# Altium integrated library Microchip Mixed Signal.IntLib: 1399 symbols (part 7 of 39)
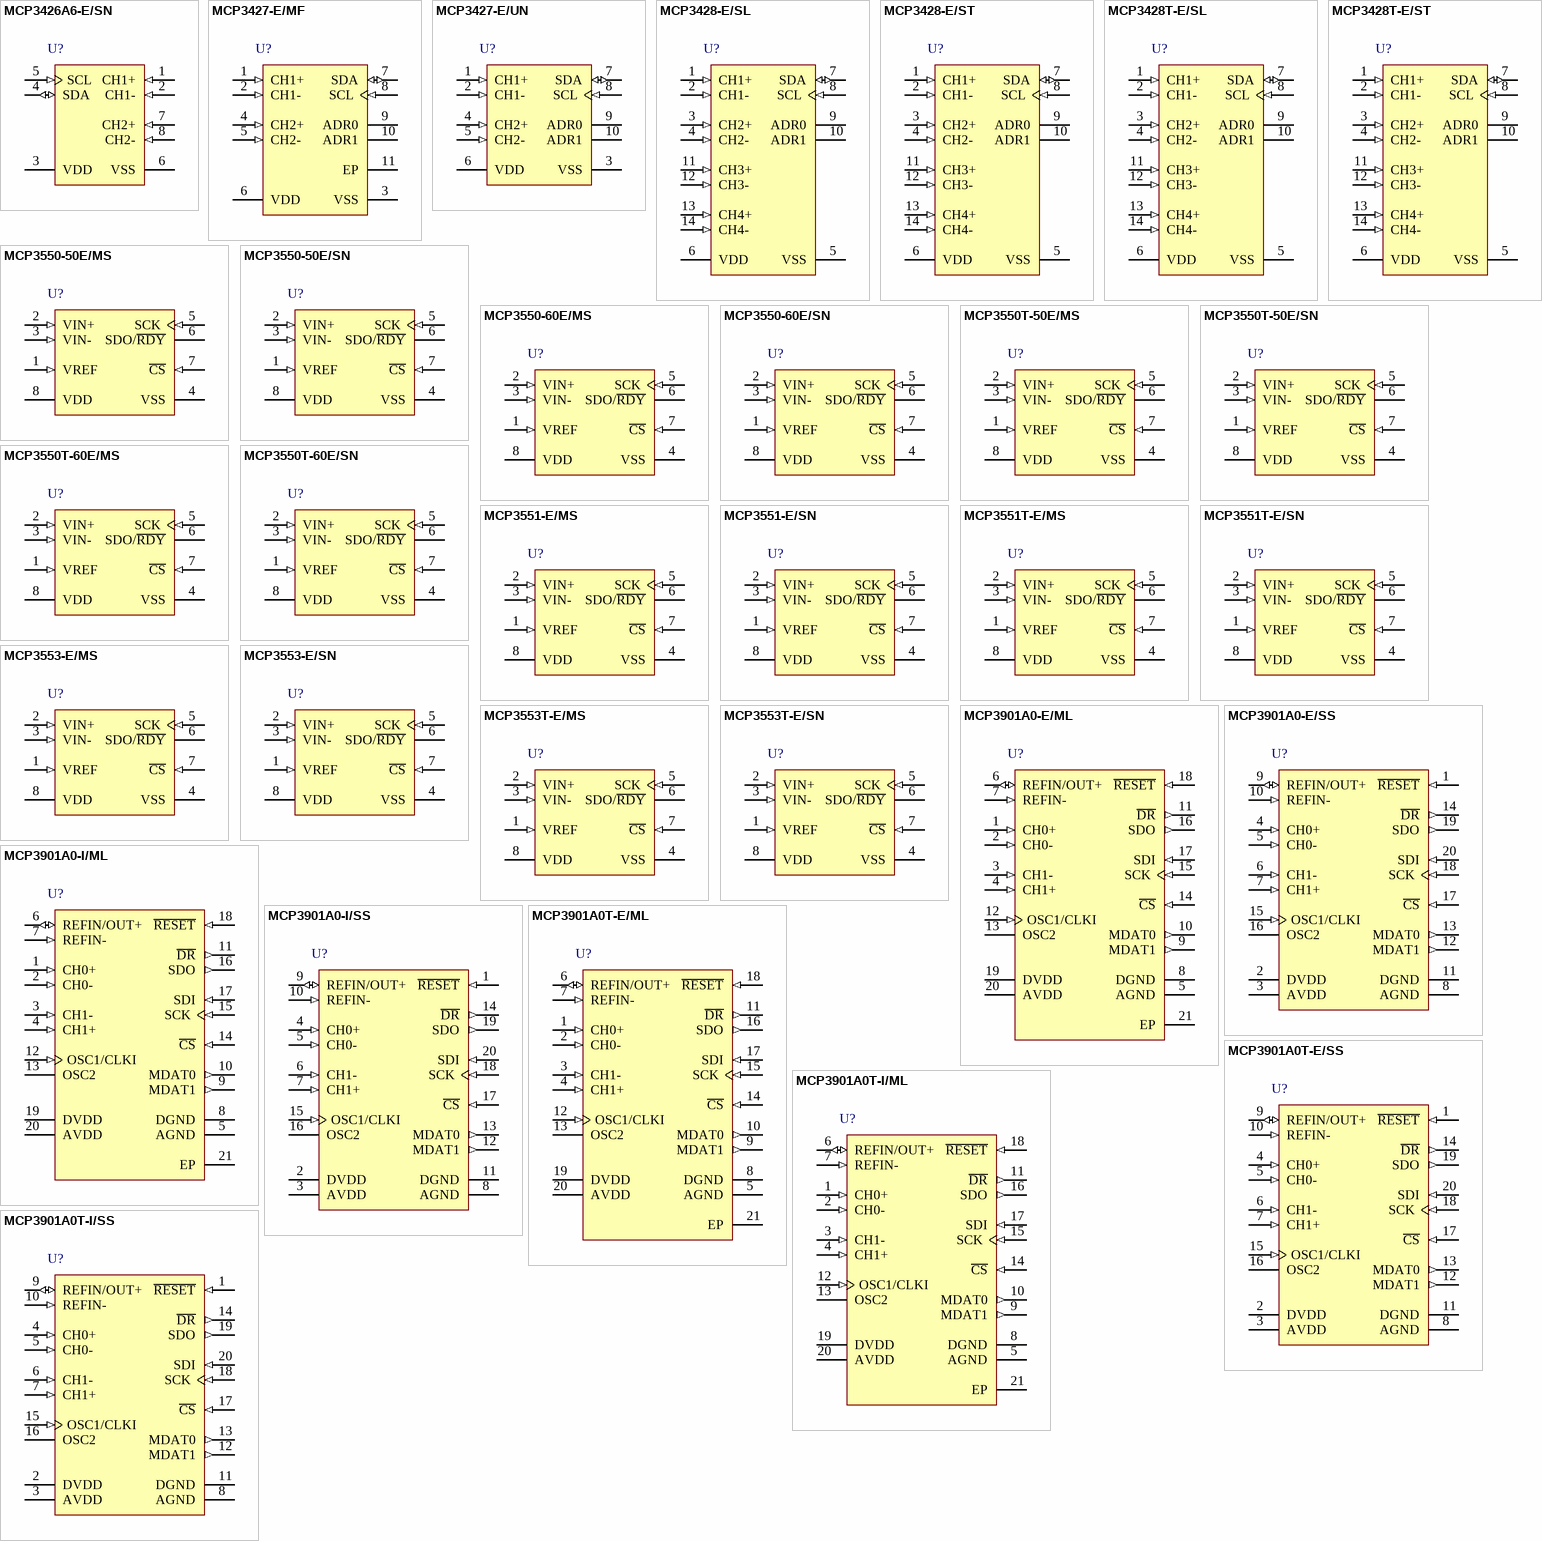
[diagram p50: symbols MCP3426A6-E/SN to MCP3901A0T-I/SS]

## MCP3901A0-I/ML
designator U?
Two Channel Analog Front End, 20-Pin QFN, Industrial Temperature; Manufacturer: Microchip; PartNumber: MCP3901A0-I/ML; DatasheetVersion: revD, Apr-2011; PackageVersion: revBB, Aug-2009; PackageReference: QFN-ML20; PackageDescription: 20-Lead Plastic Quad Flat, No Lead Package (ML) - 4x4x0.9 mm Body [QFN]; Supplier 1: Digi-Key; Supplier Part Number 1: MCP3901A0-I/ML-ND; Supplier 2: Mouser; Supplier Part Number 2: 579-MCP3901A0-I/ML; Mounting Technology: Surface Mount; ComponentLink1Description: Manufacturer URL; ComponentLink1URL: http://www.microchip.com/; ComponentLink2Description: Datasheet; ComponentLink2URL: http://ww1.microchip.com/downloads/en/DeviceDoc/22192d.pdf; ComponentLink3Description: Package Specification; ComponentLink3URL: http://www.microchip.com/stellent/groups/techpub_sg/documents/packagingspec/en012702.pdf
footprint QFN-ML20_N (QFN, 20-Leads, Body 4x4mm, Pitch 0.5mm, Thermal Pad 2.8x2.8mm, IPC Medium Density)
footprint QFN-ML20_L (QFN, 20-Leads, Body 4x4mm, Pitch 0.5mm, Thermal Pad 2.8x2.8mm, IPC High Density)
footprint QFN-ML20_M (QFN, 20-Leads, Body 4x4mm, Pitch 0.5mm, Thermal Pad 2.8x2.8mm, IPC Low Density)
pins: 1 CH0+ (in), 2 CH0- (in), 3 CH1- (in), 4 CH1+ (in), 5 AGND (power), 6 REFIN/OUT+ (io), 7 REFIN- (in), 8 DGND (power), 9 MDAT1 (out), 10 MDAT0 (out), 11 ~{DR} (out), 12 OSC1/CLKI (in), 13 OSC2, 14 ~{CS} (in), 15 SCK (in), 16 SDO (out), 17 SDI (in), 18 ~{RESET} (in), 19 DVDD (power), 20 AVDD (power), 21 EP

## MCP3901A0-I/SS
designator U?
Two Channel Analog Front End, 20-pin SSOP, Industrial Temperature; Manufacturer: Microchip; PartNumber: MCP3901A0-I/SS; DatasheetVersion: revD, Apr-2011; PackageVersion: revBB, Aug-2009; PackageReference: SSOP-SS20; PackageDescription: 20-Lead Plastic Shrink Small Outline (SS) - 5.3mm Body [SSOP]; Supplier 1: Digi-Key; Supplier Part Number 1: MCP3901A0-I/SS-ND; Supplier 2: Farnell; Supplier Part Number 2: 1825015; Supplier 3: Newark; Supplier Part Number 3: 14R8868; Supplier 4: Mouser; Supplier Part Number 4: 579-MCP3901A0-I/SS; Mounting Technology: Surface Mount; Code_JEDEC: MO-150; ComponentLink1Description: Manufacturer URL; ComponentLink1URL: http://www.microchip.com/; ComponentLink2Description: Datasheet; ComponentLink2URL: http://ww1.microchip.com/downloads/en/DeviceDoc/22192d.pdf; ComponentLink3Description: Package Specification; ComponentLink3URL: http://www.microchip.com/stellent/groups/techpub_sg/documents/packagingspec/en012702.pdf
footprint SSOP-SS20_N (SOP, 20-Leads, Body 7.2x5.2mm, Pitch 0.65mm, IPC Medium Density)
footprint SSOP-SS20_L (SOP, 20-Leads, Body 7.2x5.2mm, Pitch 0.65mm, IPC High Density)
footprint SSOP-SS20_M (SOP, 20-Leads, Body 7.2x5.2mm, Pitch 0.65mm, IPC Low Density)
pins: 1 ~{RESET} (in), 2 DVDD (power), 3 AVDD (power), 4 CH0+ (in), 5 CH0- (in), 6 CH1- (in), 7 CH1+ (in), 8 AGND (power), 9 REFIN/OUT+ (io), 10 REFIN- (in), 11 DGND (power), 12 MDAT1 (out), 13 MDAT0 (out), 14 ~{DR} (out), 15 OSC1/CLKI (in), 16 OSC2, 17 ~{CS} (in), 18 SCK (in), 19 SDO (out), 20 SDI (in)

## MCP3901A0T-E/ML
designator U?
Two Channel Analog Front End, 20-Pin QFN, Extended Temperature, Tape and Reel; Manufacturer: Microchip; PartNumber: MCP3901A0T-E/ML; DatasheetVersion: revD, Apr-2011; PackageVersion: revBB, Aug-2009; PackageReference: QFN-ML20; PackageDescription: 20-Lead Plastic Quad Flat, No Lead Package (ML) - 4x4x0.9 mm Body [QFN]; Supplier 1: Digi-Key; Supplier Part Number 1: MCP3901A0T-E/ML-ND; Supplier 2: Mouser; Supplier Part Number 2: 579-MCP3901A0T-E/ML; Mounting Technology: Surface Mount; ComponentLink1Description: Manufacturer URL; ComponentLink1URL: http://www.microchip.com/; ComponentLink2Description: Datasheet; ComponentLink2URL: http://ww1.microchip.com/downloads/en/DeviceDoc/22192d.pdf; ComponentLink3Description: Package Specification; ComponentLink3URL: http://www.microchip.com/stellent/groups/techpub_sg/documents/packagingspec/en012702.pdf
footprint QFN-ML20_N (QFN, 20-Leads, Body 4x4mm, Pitch 0.5mm, Thermal Pad 2.8x2.8mm, IPC Medium Density)
footprint QFN-ML20_L (QFN, 20-Leads, Body 4x4mm, Pitch 0.5mm, Thermal Pad 2.8x2.8mm, IPC High Density)
footprint QFN-ML20_M (QFN, 20-Leads, Body 4x4mm, Pitch 0.5mm, Thermal Pad 2.8x2.8mm, IPC Low Density)
pins: 1 CH0+ (in), 2 CH0- (in), 3 CH1- (in), 4 CH1+ (in), 5 AGND (power), 6 REFIN/OUT+ (io), 7 REFIN- (in), 8 DGND (power), 9 MDAT1 (out), 10 MDAT0 (out), 11 ~{DR} (out), 12 OSC1/CLKI (in), 13 OSC2, 14 ~{CS} (in), 15 SCK (in), 16 SDO (out), 17 SDI (in), 18 ~{RESET} (in), 19 DVDD (power), 20 AVDD (power), 21 EP

## MCP3901A0T-E/SS
designator U?
Two Channel Analog Front End, 20-Pin SSOP 208mil, Extended Temperature, Tape and Reel; Manufacturer: Microchip; PartNumber: MCP3901A0T-E/SS; DatasheetVersion: revD, Apr-2011; PackageVersion: revBB, Aug-2009; PackageReference: SSOP-SS20; PackageDescription: 20-Lead Plastic Shrink Small Outline (SS) - 5.3mm Body [SSOP]; Supplier 1: Digi-Key; Supplier Part Number 1: MCP3901A0T-E/SS-ND; Supplier 2: Mouser; Supplier Part Number 2: 579-MCP3901A0TESS; Mounting Technology: Surface Mount; Code_JEDEC: MO-150; ComponentLink1Description: Manufacturer URL; ComponentLink1URL: http://www.microchip.com/; ComponentLink2Description: Datasheet; ComponentLink2URL: http://ww1.microchip.com/downloads/en/DeviceDoc/22192d.pdf; ComponentLink3Description: Package Specification; ComponentLink3URL: http://www.microchip.com/stellent/groups/techpub_sg/documents/packagingspec/en012702.pdf
footprint SSOP-SS20_N (SOP, 20-Leads, Body 7.2x5.2mm, Pitch 0.65mm, IPC Medium Density)
footprint SSOP-SS20_L (SOP, 20-Leads, Body 7.2x5.2mm, Pitch 0.65mm, IPC High Density)
footprint SSOP-SS20_M (SOP, 20-Leads, Body 7.2x5.2mm, Pitch 0.65mm, IPC Low Density)
pins: 1 ~{RESET} (in), 2 DVDD (power), 3 AVDD (power), 4 CH0+ (in), 5 CH0- (in), 6 CH1- (in), 7 CH1+ (in), 8 AGND (power), 9 REFIN/OUT+ (io), 10 REFIN- (in), 11 DGND (power), 12 MDAT1 (out), 13 MDAT0 (out), 14 ~{DR} (out), 15 OSC1/CLKI (in), 16 OSC2, 17 ~{CS} (in), 18 SCK (in), 19 SDO (out), 20 SDI (in)

## MCP3901A0T-I/ML
designator U?
Two Channel Analog Front End, 20-Pin QFN, Industrial Temperature, Tape and Reel; Manufacturer: Microchip; PartNumber: MCP3901A0T-I/ML; DatasheetVersion: revD, Apr-2011; PackageVersion: revBB, Aug-2009; PackageReference: QFN-ML20; PackageDescription: 20-Lead Plastic Quad Flat, No Lead Package (ML) - 4x4x0.9 mm Body [QFN]; Supplier 1: Digi-Key; Supplier Part Number 1: MCP3901A0T-I/ML-ND; Supplier 2: Mouser; Supplier Part Number 2: 579-MCP3901A0T-I/ML; Mounting Technology: Surface Mount; ComponentLink1Description: Manufacturer URL; ComponentLink1URL: http://www.microchip.com/; ComponentLink2Description: Datasheet; ComponentLink2URL: http://ww1.microchip.com/downloads/en/DeviceDoc/22192d.pdf; ComponentLink3Description: Package Specification; ComponentLink3URL: http://www.microchip.com/stellent/groups/techpub_sg/documents/packagingspec/en012702.pdf
footprint QFN-ML20_N (QFN, 20-Leads, Body 4x4mm, Pitch 0.5mm, Thermal Pad 2.8x2.8mm, IPC Medium Density)
footprint QFN-ML20_L (QFN, 20-Leads, Body 4x4mm, Pitch 0.5mm, Thermal Pad 2.8x2.8mm, IPC High Density)
footprint QFN-ML20_M (QFN, 20-Leads, Body 4x4mm, Pitch 0.5mm, Thermal Pad 2.8x2.8mm, IPC Low Density)
pins: 1 CH0+ (in), 2 CH0- (in), 3 CH1- (in), 4 CH1+ (in), 5 AGND (power), 6 REFIN/OUT+ (io), 7 REFIN- (in), 8 DGND (power), 9 MDAT1 (out), 10 MDAT0 (out), 11 ~{DR} (out), 12 OSC1/CLKI (in), 13 OSC2, 14 ~{CS} (in), 15 SCK (in), 16 SDO (out), 17 SDI (in), 18 ~{RESET} (in), 19 DVDD (power), 20 AVDD (power), 21 EP

## MCP3901A0T-I/SS
designator U?
Two Channel Analog Front End, 20-pin SSOP, Industrial Temperature, Tape and Reel; Manufacturer: Microchip; PartNumber: MCP3901A0T-I/SS; DatasheetVersion: revD, Apr-2011; PackageVersion: revBB, Aug-2009; PackageReference: SSOP-SS20; PackageDescription: 20-Lead Plastic Shrink Small Outline (SS) - 5.3mm Body [SSOP]; Supplier 1: Digi-Key; Supplier Part Number 1: MCP3901A0T-I/SS-ND; Supplier 2: Newark; Supplier Part Number 2: 14R8870; Supplier 3: Mouser; Supplier Part Number 3: 579-MCP3901A0T-I/SS; Mounting Technology: Surface Mount; Code_JEDEC: MO-150; ComponentLink1Description: Manufacturer URL; ComponentLink1URL: http://www.microchip.com/; ComponentLink2Description: Datasheet; ComponentLink2URL: http://ww1.microchip.com/downloads/en/DeviceDoc/22192d.pdf; ComponentLink3Description: Package Specification; ComponentLink3URL: http://www.microchip.com/stellent/groups/techpub_sg/documents/packagingspec/en012702.pdf
footprint SSOP-SS20_N (SOP, 20-Leads, Body 7.2x5.2mm, Pitch 0.65mm, IPC Medium Density)
footprint SSOP-SS20_L (SOP, 20-Leads, Body 7.2x5.2mm, Pitch 0.65mm, IPC High Density)
footprint SSOP-SS20_M (SOP, 20-Leads, Body 7.2x5.2mm, Pitch 0.65mm, IPC Low Density)
pins: 1 ~{RESET} (in), 2 DVDD (power), 3 AVDD (power), 4 CH0+ (in), 5 CH0- (in), 6 CH1- (in), 7 CH1+ (in), 8 AGND (power), 9 REFIN/OUT+ (io), 10 REFIN- (in), 11 DGND (power), 12 MDAT1 (out), 13 MDAT0 (out), 14 ~{DR} (out), 15 OSC1/CLKI (in), 16 OSC2, 17 ~{CS} (in), 18 SCK (in), 19 SDO (out), 20 SDI (in)

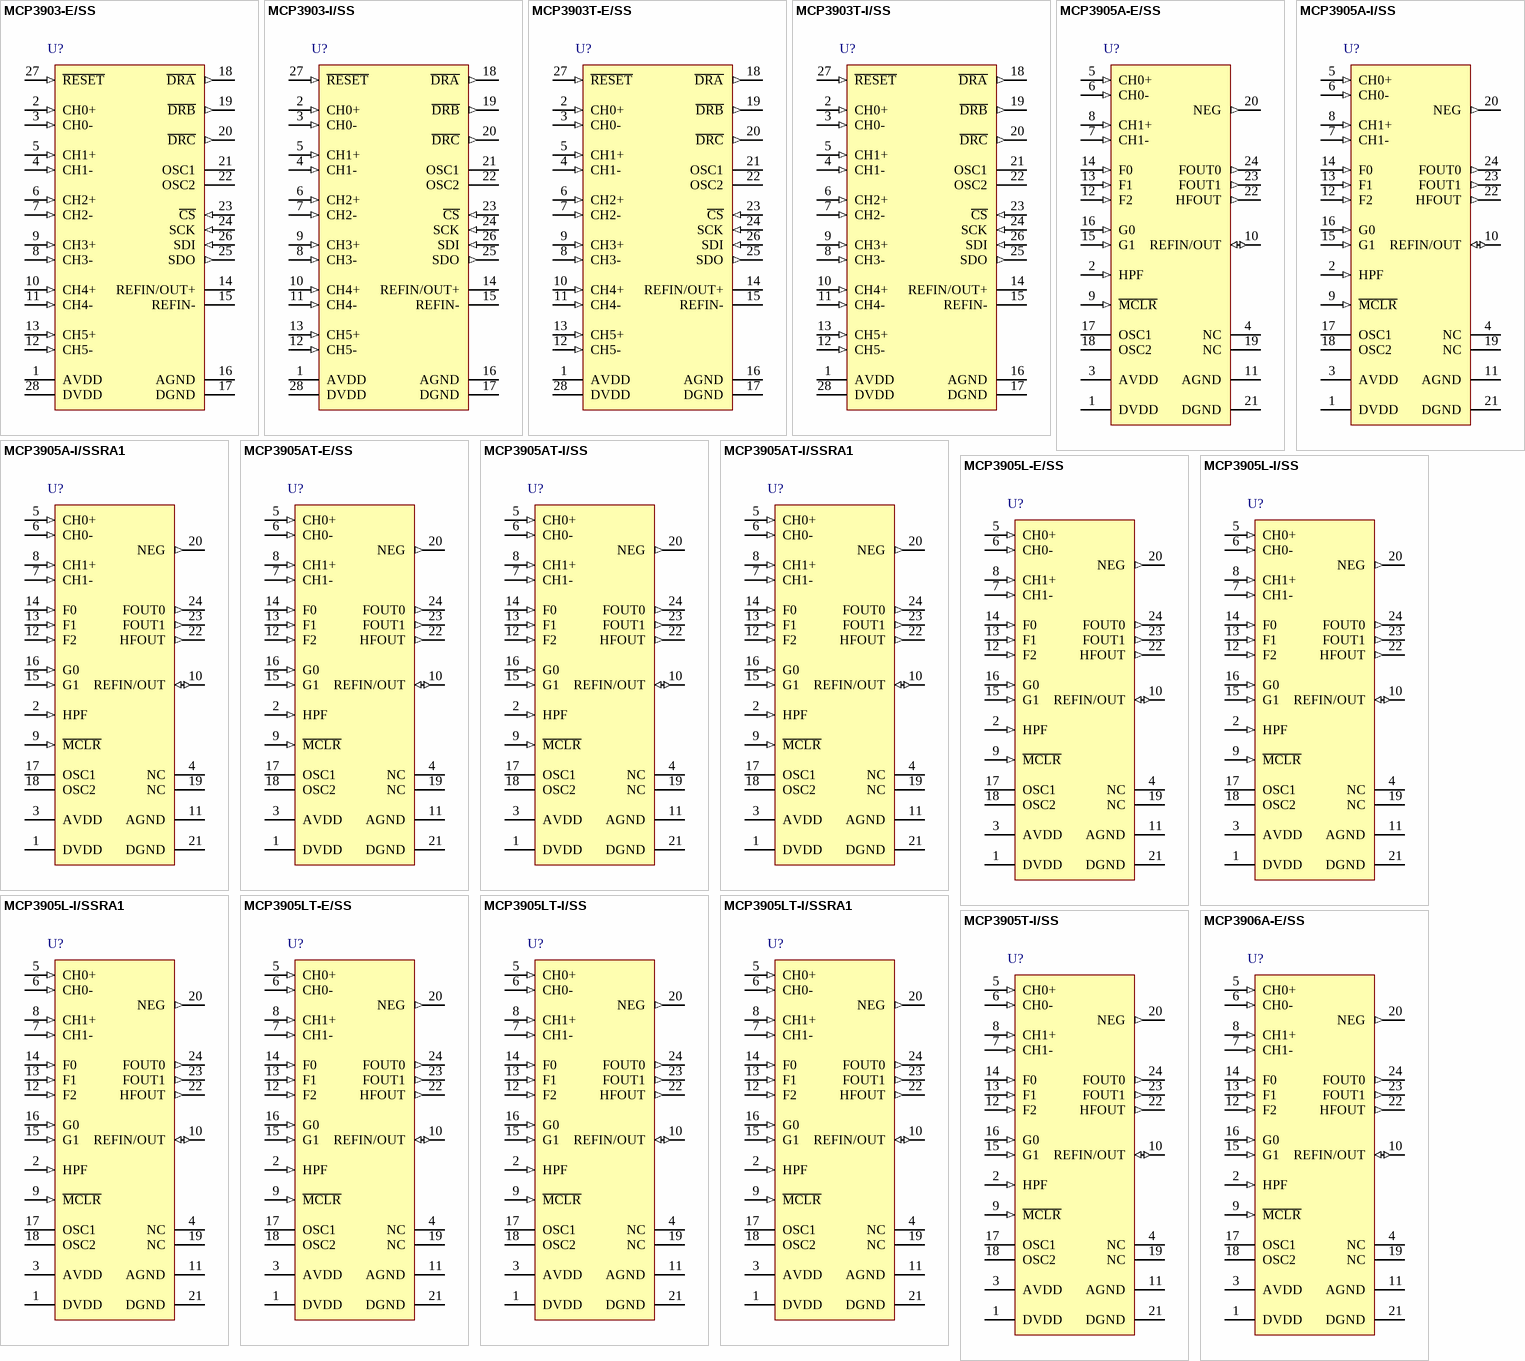
[diagram p6: symbols MCP3903-E/SS to MCP3906A-E/SS]

## MCP3903-E/SS
designator U?
Six Channel Delta Sigma A/D Converter, 28-Pin SSOP 208mil, Extended Temperature; Manufacturer: Microchip; PartNumber: MCP3903-E/SS; DatasheetVersion: revB, Jul-2011; PackageVersion: revBB, Aug-2009; PackageReference: SSOP-SS28; PackageDescription: 28-Lead Plastic Shrink Small Outline (SS) - 5.3mm Body [SSOP]; Supplier 1: Digi-Key; Supplier Part Number 1: MCP3903-E/SS-ND; Supplier 2: Farnell; Supplier Part Number 2: 2016052; Supplier 3: Newark; Supplier Part Number 3: 79R3452; Supplier 4: Mouser; Supplier Part Number 4: 579-MCP3903-E/SS; Mounting Technology: Surface Mount; Code_JEDEC: MS-150; ComponentLink1Description: Manufacturer URL; ComponentLink1URL: http://www.microchip.com/; ComponentLink2Description: Datasheet; ComponentLink2URL: http://ww1.microchip.com/downloads/en/DeviceDoc/25048B.pdf; ComponentLink3Description: Package Specification; ComponentLink3URL: http://www.microchip.com/stellent/groups/techpub_sg/documents/packagingspec/en012702.pdf
footprint SSOP-SS28_N (SOP, 28-Leads, Body 10.2x5.2mm, Pitch 0.65mm, IPC Medium Density)
footprint SSOP-SS28_L (SOP, 28-Leads, Body 10.2x5.2mm, Pitch 0.65mm, IPC High Density)
footprint SSOP-SS28_M (SOP, 28-Leads, Body 10.2x5.2mm, Pitch 0.65mm, IPC Low Density)
pins: 1 AVDD (power), 2 CH0+ (in), 3 CH0- (in), 4 CH1- (in), 5 CH1+ (in), 6 CH2+ (in), 7 CH2- (in), 8 CH3- (in), 9 CH3+ (in), 10 CH4+ (in), 11 CH4- (in), 12 CH5- (in), 13 CH5+ (in), 14 REFIN/OUT+ (power), 15 REFIN- (power), 16 AGND (power), 17 DGND (power), 18 ~{DRA} (out), 19 ~{DRB} (out), 20 ~{DRC} (out), 21 OSC1, 22 OSC2, 23 ~{CS} (in), 24 SCK (in), 25 SDO (out), 26 SDI (in), 27 ~{RESET} (in), 28 DVDD (power)

## MCP3903-I/SS
designator U?
Six Channel Delta Sigma A/D Converter, 28-Pin SSOP 208mil, Industrial Temperature; Manufacturer: Microchip; PartNumber: MCP3903-I/SS; DatasheetVersion: revB, Jul-2011; PackageVersion: revBB, Aug-2009; PackageReference: SSOP-SS28; PackageDescription: 28-Lead Plastic Shrink Small Outline (SS) - 5.3mm Body [SSOP]; Supplier 1: Digi-Key; Supplier Part Number 1: MCP3903-I/SS-ND; Supplier 2: Newark; Supplier Part Number 2: 55T3275; Supplier 3: Mouser; Supplier Part Number 3: 579-MCP3903-I/SS; Mounting Technology: Surface Mount; Code_JEDEC: MS-150; ComponentLink1Description: Manufacturer URL; ComponentLink1URL: http://www.microchip.com/; ComponentLink2Description: Datasheet; ComponentLink2URL: http://ww1.microchip.com/downloads/en/DeviceDoc/25048B.pdf; ComponentLink3Description: Package Specification; ComponentLink3URL: http://www.microchip.com/stellent/groups/techpub_sg/documents/packagingspec/en012702.pdf
footprint SSOP-SS28_N (SOP, 28-Leads, Body 10.2x5.2mm, Pitch 0.65mm, IPC Medium Density)
footprint SSOP-SS28_L (SOP, 28-Leads, Body 10.2x5.2mm, Pitch 0.65mm, IPC High Density)
footprint SSOP-SS28_M (SOP, 28-Leads, Body 10.2x5.2mm, Pitch 0.65mm, IPC Low Density)
pins: 1 AVDD (power), 2 CH0+ (in), 3 CH0- (in), 4 CH1- (in), 5 CH1+ (in), 6 CH2+ (in), 7 CH2- (in), 8 CH3- (in), 9 CH3+ (in), 10 CH4+ (in), 11 CH4- (in), 12 CH5- (in), 13 CH5+ (in), 14 REFIN/OUT+ (power), 15 REFIN- (power), 16 AGND (power), 17 DGND (power), 18 ~{DRA} (out), 19 ~{DRB} (out), 20 ~{DRC} (out), 21 OSC1, 22 OSC2, 23 ~{CS} (in), 24 SCK (in), 25 SDO (out), 26 SDI (in), 27 ~{RESET} (in), 28 DVDD (power)

## MCP3903T-E/SS
designator U?
Six Channel Delta Sigma A/D Converter, 28-Pin SSOP 208mil, Extended Temperature, Tape and Reel; Manufacturer: Microchip; PartNumber: MCP3903T-E/SS; DatasheetVersion: revB, Jul-2011; PackageVersion: revBB, Aug-2009; PackageReference: SSOP-SS28; PackageDescription: 28-Lead Plastic Shrink Small Outline (SS) - 5.3mm Body [SSOP]; Supplier 1: Digi-Key; Supplier Part Number 1: MCP3903T-E/SS-ND; Supplier 2: Mouser; Supplier Part Number 2: 579-MCP3903T-E/SS; Mounting Technology: Surface Mount; Code_JEDEC: MS-150; ComponentLink1Description: Manufacturer URL; ComponentLink1URL: http://www.microchip.com/; ComponentLink2Description: Datasheet; ComponentLink2URL: http://ww1.microchip.com/downloads/en/DeviceDoc/25048B.pdf; ComponentLink3Description: Package Specification; ComponentLink3URL: http://www.microchip.com/stellent/groups/techpub_sg/documents/packagingspec/en012702.pdf
footprint SSOP-SS28_N (SOP, 28-Leads, Body 10.2x5.2mm, Pitch 0.65mm, IPC Medium Density)
footprint SSOP-SS28_L (SOP, 28-Leads, Body 10.2x5.2mm, Pitch 0.65mm, IPC High Density)
footprint SSOP-SS28_M (SOP, 28-Leads, Body 10.2x5.2mm, Pitch 0.65mm, IPC Low Density)
pins: 1 AVDD (power), 2 CH0+ (in), 3 CH0- (in), 4 CH1- (in), 5 CH1+ (in), 6 CH2+ (in), 7 CH2- (in), 8 CH3- (in), 9 CH3+ (in), 10 CH4+ (in), 11 CH4- (in), 12 CH5- (in), 13 CH5+ (in), 14 REFIN/OUT+ (power), 15 REFIN- (power), 16 AGND (power), 17 DGND (power), 18 ~{DRA} (out), 19 ~{DRB} (out), 20 ~{DRC} (out), 21 OSC1, 22 OSC2, 23 ~{CS} (in), 24 SCK (in), 25 SDO (out), 26 SDI (in), 27 ~{RESET} (in), 28 DVDD (power)

## MCP3903T-I/SS
designator U?
Six Channel Delta Sigma A/D Converter, 28-Pin SSOP 208mil, Industrial Temperature, Tape and Reel; Manufacturer: Microchip; PartNumber: MCP3903T-I/SS; DatasheetVersion: revB, Jul-2011; PackageVersion: revBB, Aug-2009; PackageReference: SSOP-SS28; PackageDescription: 28-Lead Plastic Shrink Small Outline (SS) - 5.3mm Body [SSOP]; Supplier 1: Digi-Key; Supplier Part Number 1: MCP3903T-I/SS-ND; Supplier 2: Mouser; Supplier Part Number 2: 579-MCP3903T-I/SS; Mounting Technology: Surface Mount; Code_JEDEC: MS-150; ComponentLink1Description: Manufacturer URL; ComponentLink1URL: http://www.microchip.com/; ComponentLink2Description: Datasheet; ComponentLink2URL: http://ww1.microchip.com/downloads/en/DeviceDoc/25048B.pdf; ComponentLink3Description: Package Specification; ComponentLink3URL: http://www.microchip.com/stellent/groups/techpub_sg/documents/packagingspec/en012702.pdf
footprint SSOP-SS28_N (SOP, 28-Leads, Body 10.2x5.2mm, Pitch 0.65mm, IPC Medium Density)
footprint SSOP-SS28_L (SOP, 28-Leads, Body 10.2x5.2mm, Pitch 0.65mm, IPC High Density)
footprint SSOP-SS28_M (SOP, 28-Leads, Body 10.2x5.2mm, Pitch 0.65mm, IPC Low Density)
pins: 1 AVDD (power), 2 CH0+ (in), 3 CH0- (in), 4 CH1- (in), 5 CH1+ (in), 6 CH2+ (in), 7 CH2- (in), 8 CH3- (in), 9 CH3+ (in), 10 CH4+ (in), 11 CH4- (in), 12 CH5- (in), 13 CH5+ (in), 14 REFIN/OUT+ (power), 15 REFIN- (power), 16 AGND (power), 17 DGND (power), 18 ~{DRA} (out), 19 ~{DRB} (out), 20 ~{DRC} (out), 21 OSC1, 22 OSC2, 23 ~{CS} (in), 24 SCK (in), 25 SDO (out), 26 SDI (in), 27 ~{RESET} (in), 28 DVDD (power)

## MCP3905A-E/SS
designator U?
Energy Metering ICs with Active Real Power Pulse Output, 24-Pin SSOP 208mil, Extended Temperature; Manufacturer: Microchip; PartNumber: MCP3905A-E/SS; DatasheetVersion: revB, Jul-2011; PackageVersion: revBB, Aug-2009; PackageReference: SSOP-SS24; PackageDescription: 24-Lead Plastic Shrink Small Outline (SS) - 5.3mm Body [SSOP]; Supplier 1: Digi-Key; Supplier Part Number 1: MCP3905A-E/SS-ND; Supplier 2: Newark; Supplier Part Number 2: 41T4140; Supplier 3: Mouser; Supplier Part Number 3: 579-MCP3905A-E/SS; Mounting Technology: Surface Mount; Code_JEDEC: MO-150-AG; ComponentLink1Description: Manufacturer URL; ComponentLink1URL: http://www.microchip.com/; ComponentLink2Description: Datasheet; ComponentLink2URL: http://ww1.microchip.com/downloads/en/DeviceDoc/22011B.pdf; ComponentLink3Description: Package Specification; ComponentLink3URL: http://www.microchip.com/stellent/groups/techpub_sg/documents/packagingspec/en012702.pdf
footprint SSOP-SS24_N (SOP, 24-Leads, Body 8.2x5.3mm, Pitch 0.65mm, IPC Medium Density)
footprint SSOP-SS24_L (SOP, 24-Leads, Body 8.2x5.3mm, Pitch 0.65mm, IPC High Density)
footprint SSOP-SS24_M (SOP, 24-Leads, Body 8.2x5.3mm, Pitch 0.65mm, IPC Low Density)
pins: 1 DVDD (power), 2 HPF (in), 3 AVDD (power), 4 NC, 5 CH0+ (in), 6 CH0- (in), 7 CH1- (in), 8 CH1+ (in), 9 ~{MCLR} (in), 10 REFIN/OUT (io), 11 AGND (power), 12 F2 (in), 13 F1 (in), 14 F0 (in), 15 G1 (in), 16 G0 (in), 17 OSC1, 18 OSC2, 19 NC, 20 NEG (out), 21 DGND (power), 22 HFOUT (out), 23 FOUT1 (out), 24 FOUT0 (out)

## MCP3905A-I/SS
designator U?
Energy Metering ICs with Active Real Power Pulse Output, 24-Pin SSOP 208mil, Industrial Temperature; Manufacturer: Microchip; PartNumber: MCP3905A-I/SS; DatasheetVersion: revB, Jul-2011; PackageVersion: revBB, Aug-2009; PackageReference: SSOP-SS24; PackageDescription: 24-Lead Plastic Shrink Small Outline (SS) - 5.3mm Body [SSOP]; Supplier 1: Digi-Key; Supplier Part Number 1: MCP3905A-I/SS-ND; Supplier 2: Farnell; Supplier Part Number 2: 1439398; Supplier 3: Newark; Supplier Part Number 3: 58M8906; Supplier 4: Newark; Supplier Part Number 4: 17M0635; Supplier 5: Mouser; Supplier Part Number 5: 579-MCP3905A-I/SS; Mounting Technology: Surface Mount; Code_JEDEC: MO-150-AG; ComponentLink1Description: Manufacturer URL; ComponentLink1URL: http://www.microchip.com/; ComponentLink2Description: Datasheet; ComponentLink2URL: http://ww1.microchip.com/downloads/en/DeviceDoc/22011B.pdf; ComponentLink3Description: Package Specification; ComponentLink3URL: http://www.microchip.com/stellent/groups/techpub_sg/documents/packagingspec/en012702.pdf
footprint SSOP-SS24_N (SOP, 24-Leads, Body 8.2x5.3mm, Pitch 0.65mm, IPC Medium Density)
footprint SSOP-SS24_L (SOP, 24-Leads, Body 8.2x5.3mm, Pitch 0.65mm, IPC High Density)
footprint SSOP-SS24_M (SOP, 24-Leads, Body 8.2x5.3mm, Pitch 0.65mm, IPC Low Density)
pins: 1 DVDD (power), 2 HPF (in), 3 AVDD (power), 4 NC, 5 CH0+ (in), 6 CH0- (in), 7 CH1- (in), 8 CH1+ (in), 9 ~{MCLR} (in), 10 REFIN/OUT (io), 11 AGND (power), 12 F2 (in), 13 F1 (in), 14 F0 (in), 15 G1 (in), 16 G0 (in), 17 OSC1, 18 OSC2, 19 NC, 20 NEG (out), 21 DGND (power), 22 HFOUT (out), 23 FOUT1 (out), 24 FOUT0 (out)

## MCP3905A-I/SSRA1
designator U?
Energy Metering ICs with Active Real Power Pulse Output, 24-Pin SSOP 208mil, Industrial Temperature; Manufacturer: Microchip; PartNumber: MCP3905A-I/SSRA1; DatasheetVersion: revB, Jul-2011; PackageVersion: revBB, Aug-2009; PackageReference: SSOP-SS24; PackageDescription: 24-Lead Plastic Shrink Small Outline (SS) - 5.3mm Body [SSOP]; Mounting Technology: Surface Mount; Code_JEDEC: MO-150-AG; ComponentLink1Description: Manufacturer URL; ComponentLink1URL: http://www.microchip.com/; ComponentLink2Description: Datasheet; ComponentLink2URL: http://ww1.microchip.com/downloads/en/DeviceDoc/22011B.pdf; ComponentLink3Description: Package Specification; ComponentLink3URL: http://www.microchip.com/stellent/groups/techpub_sg/documents/packagingspec/en012702.pdf
footprint SSOP-SS24_N (SOP, 24-Leads, Body 8.2x5.3mm, Pitch 0.65mm, IPC Medium Density)
footprint SSOP-SS24_L (SOP, 24-Leads, Body 8.2x5.3mm, Pitch 0.65mm, IPC High Density)
footprint SSOP-SS24_M (SOP, 24-Leads, Body 8.2x5.3mm, Pitch 0.65mm, IPC Low Density)
pins: 1 DVDD (power), 2 HPF (in), 3 AVDD (power), 4 NC, 5 CH0+ (in), 6 CH0- (in), 7 CH1- (in), 8 CH1+ (in), 9 ~{MCLR} (in), 10 REFIN/OUT (io), 11 AGND (power), 12 F2 (in), 13 F1 (in), 14 F0 (in), 15 G1 (in), 16 G0 (in), 17 OSC1, 18 OSC2, 19 NC, 20 NEG (out), 21 DGND (power), 22 HFOUT (out), 23 FOUT1 (out), 24 FOUT0 (out)

## MCP3905AT-E/SS
designator U?
Energy Metering ICs with Active Real Power Pulse Output, 24-Pin SSOP 208mil, Extended Temperature, Tape and Reel; Manufacturer: Microchip; PartNumber: MCP3905AT-E/SS; DatasheetVersion: revB, Jul-2011; PackageVersion: revBB, Aug-2009; PackageReference: SSOP-SS24; PackageDescription: 24-Lead Plastic Shrink Small Outline (SS) - 5.3mm Body [SSOP]; Supplier 1: Digi-Key; Supplier Part Number 1: MCP3905AT-E/SS-ND; Supplier 2: Mouser; Supplier Part Number 2: 579-MCP3905AT-E/SS; Mounting Technology: Surface Mount; Code_JEDEC: MO-150-AG; ComponentLink1Description: Manufacturer URL; ComponentLink1URL: http://www.microchip.com/; ComponentLink2Description: Datasheet; ComponentLink2URL: http://ww1.microchip.com/downloads/en/DeviceDoc/22011B.pdf; ComponentLink3Description: Package Specification; ComponentLink3URL: http://www.microchip.com/stellent/groups/techpub_sg/documents/packagingspec/en012702.pdf
footprint SSOP-SS24_N (SOP, 24-Leads, Body 8.2x5.3mm, Pitch 0.65mm, IPC Medium Density)
footprint SSOP-SS24_L (SOP, 24-Leads, Body 8.2x5.3mm, Pitch 0.65mm, IPC High Density)
footprint SSOP-SS24_M (SOP, 24-Leads, Body 8.2x5.3mm, Pitch 0.65mm, IPC Low Density)
pins: 1 DVDD (power), 2 HPF (in), 3 AVDD (power), 4 NC, 5 CH0+ (in), 6 CH0- (in), 7 CH1- (in), 8 CH1+ (in), 9 ~{MCLR} (in), 10 REFIN/OUT (io), 11 AGND (power), 12 F2 (in), 13 F1 (in), 14 F0 (in), 15 G1 (in), 16 G0 (in), 17 OSC1, 18 OSC2, 19 NC, 20 NEG (out), 21 DGND (power), 22 HFOUT (out), 23 FOUT1 (out), 24 FOUT0 (out)

## MCP3905AT-I/SS
designator U?
Energy Metering ICs with Active Real Power Pulse Output, 24-Pin SSOP 208mil, Industrial Temperature, Tape and Reel; Manufacturer: Microchip; PartNumber: MCP3905AT-I/SS; DatasheetVersion: revB, Jul-2011; PackageVersion: revBB, Aug-2009; PackageReference: SSOP-SS24; PackageDescription: 24-Lead Plastic Shrink Small Outline (SS) - 5.3mm Body [SSOP]; Supplier 1: Digi-Key; Supplier Part Number 1: MCP3905AT-I/SS-ND; Supplier 2: Newark; Supplier Part Number 2: 17M0636; Supplier 3: Mouser; Supplier Part Number 3: 579-MCP3905AT-I/SS; Mounting Technology: Surface Mount; Code_JEDEC: MO-150-AG; ComponentLink1Description: Manufacturer URL; ComponentLink1URL: http://www.microchip.com/; ComponentLink2Description: Datasheet; ComponentLink2URL: http://ww1.microchip.com/downloads/en/DeviceDoc/22011B.pdf; ComponentLink3Description: Package Specification; ComponentLink3URL: http://www.microchip.com/stellent/groups/techpub_sg/documents/packagingspec/en012702.pdf
footprint SSOP-SS24_N (SOP, 24-Leads, Body 8.2x5.3mm, Pitch 0.65mm, IPC Medium Density)
footprint SSOP-SS24_L (SOP, 24-Leads, Body 8.2x5.3mm, Pitch 0.65mm, IPC High Density)
footprint SSOP-SS24_M (SOP, 24-Leads, Body 8.2x5.3mm, Pitch 0.65mm, IPC Low Density)
pins: 1 DVDD (power), 2 HPF (in), 3 AVDD (power), 4 NC, 5 CH0+ (in), 6 CH0- (in), 7 CH1- (in), 8 CH1+ (in), 9 ~{MCLR} (in), 10 REFIN/OUT (io), 11 AGND (power), 12 F2 (in), 13 F1 (in), 14 F0 (in), 15 G1 (in), 16 G0 (in), 17 OSC1, 18 OSC2, 19 NC, 20 NEG (out), 21 DGND (power), 22 HFOUT (out), 23 FOUT1 (out), 24 FOUT0 (out)

## MCP3905AT-I/SSRA1
designator U?
Energy Metering ICs with Active Real Power Pulse Output, 24-Pin SSOP 208mil, Industrial Temperature, Tape and Reel; Manufacturer: Microchip; PartNumber: MCP3905AT-I/SSRA1; DatasheetVersion: revA, Sep-2006; PackageVersion: revBB, Aug-2009; PackageReference: SSOP-SS24; PackageDescription: 24-Lead Plastic Shrink Small Outline (SS) - 5.3mm Body [SSOP]; Mounting Technology: Surface Mount; Code_JEDEC: MO-150-AG; ComponentLink1Description: Manufacturer URL; ComponentLink1URL: http://www.microchip.com/; ComponentLink2Description: Datasheet; ComponentLink2URL: http://ww1.microchip.com/downloads/en/DeviceDoc/22011A.pdf; ComponentLink3Description: Package Specification; ComponentLink3URL: http://www.microchip.com/stellent/groups/techpub_sg/documents/packagingspec/en012702.pdf
footprint SSOP-SS24_N (SOP, 24-Leads, Body 8.2x5.3mm, Pitch 0.65mm, IPC Medium Density)
footprint SSOP-SS24_L (SOP, 24-Leads, Body 8.2x5.3mm, Pitch 0.65mm, IPC High Density)
footprint SSOP-SS24_M (SOP, 24-Leads, Body 8.2x5.3mm, Pitch 0.65mm, IPC Low Density)
pins: 1 DVDD (power), 2 HPF (in), 3 AVDD (power), 4 NC, 5 CH0+ (in), 6 CH0- (in), 7 CH1- (in), 8 CH1+ (in), 9 ~{MCLR} (in), 10 REFIN/OUT (io), 11 AGND (power), 12 F2 (in), 13 F1 (in), 14 F0 (in), 15 G1 (in), 16 G0 (in), 17 OSC1, 18 OSC2, 19 NC, 20 NEG (out), 21 DGND (power), 22 HFOUT (out), 23 FOUT1 (out), 24 FOUT0 (out)

## MCP3905L-E/SS
designator U?
Energy Metering ICs with Active Real Power Pulse Output, 24-Pin SSOP 208mil, Extended Temperature; Manufacturer: Microchip; PartNumber: MCP3905L-E/SS; DatasheetVersion: revB, Jul-2011; PackageVersion: revBB, Aug-2009; PackageReference: SSOP-SS24; PackageDescription: 24-Lead Plastic Shrink Small Outline (SS) - 5.3mm Body [SSOP]; Supplier 1: Digi-Key; Supplier Part Number 1: MCP3905L-E/SS-ND; Supplier 2: Mouser; Supplier Part Number 2: 579-MCP3905L-E/SS; Mounting Technology: Surface Mount; Code_JEDEC: MO-150-AG; ComponentLink1Description: Manufacturer URL; ComponentLink1URL: http://www.microchip.com/; ComponentLink2Description: Datasheet; ComponentLink2URL: http://ww1.microchip.com/downloads/en/DeviceDoc/22011B.pdf; ComponentLink3Description: Package Specification; ComponentLink3URL: http://www.microchip.com/stellent/groups/techpub_sg/documents/packagingspec/en012702.pdf
footprint SSOP-SS24_N (SOP, 24-Leads, Body 8.2x5.3mm, Pitch 0.65mm, IPC Medium Density)
footprint SSOP-SS24_L (SOP, 24-Leads, Body 8.2x5.3mm, Pitch 0.65mm, IPC High Density)
footprint SSOP-SS24_M (SOP, 24-Leads, Body 8.2x5.3mm, Pitch 0.65mm, IPC Low Density)
pins: 1 DVDD (power), 2 HPF (in), 3 AVDD (power), 4 NC, 5 CH0+ (in), 6 CH0- (in), 7 CH1- (in), 8 CH1+ (in), 9 ~{MCLR} (in), 10 REFIN/OUT (io), 11 AGND (power), 12 F2 (in), 13 F1 (in), 14 F0 (in), 15 G1 (in), 16 G0 (in), 17 OSC1, 18 OSC2, 19 NC, 20 NEG (out), 21 DGND (power), 22 HFOUT (out), 23 FOUT1 (out), 24 FOUT0 (out)

## MCP3905L-I/SS
designator U?
Energy Metering ICs with Active Real Power Pulse Output, 24-Pin SSOP 208mil, Industrial Temperature; Manufacturer: Microchip; PartNumber: MCP3905L-I/SS; DatasheetVersion: revB, Jul-2011; PackageVersion: revBB, Aug-2009; PackageReference: SSOP-SS24; PackageDescription: 24-Lead Plastic Shrink Small Outline (SS) - 5.3mm Body [SSOP]; Supplier 1: Digi-Key; Supplier Part Number 1: MCP3905L-I/SS-ND; Supplier 2: Farnell; Supplier Part Number 2: 1852027; Supplier 3: Newark; Supplier Part Number 3: 17M0637; Supplier 4: Mouser; Supplier Part Number 4: 579-MCP3905L-I/SS; Mounting Technology: Surface Mount; Code_JEDEC: MO-150-AG; ComponentLink1Description: Manufacturer URL; ComponentLink1URL: http://www.microchip.com/; ComponentLink2Description: Datasheet; ComponentLink2URL: http://ww1.microchip.com/downloads/en/DeviceDoc/22011B.pdf; ComponentLink3Description: Package Specification; ComponentLink3URL: http://www.microchip.com/stellent/groups/techpub_sg/documents/packagingspec/en012702.pdf
footprint SSOP-SS24_N (SOP, 24-Leads, Body 8.2x5.3mm, Pitch 0.65mm, IPC Medium Density)
footprint SSOP-SS24_L (SOP, 24-Leads, Body 8.2x5.3mm, Pitch 0.65mm, IPC High Density)
footprint SSOP-SS24_M (SOP, 24-Leads, Body 8.2x5.3mm, Pitch 0.65mm, IPC Low Density)
pins: 1 DVDD (power), 2 HPF (in), 3 AVDD (power), 4 NC, 5 CH0+ (in), 6 CH0- (in), 7 CH1- (in), 8 CH1+ (in), 9 ~{MCLR} (in), 10 REFIN/OUT (io), 11 AGND (power), 12 F2 (in), 13 F1 (in), 14 F0 (in), 15 G1 (in), 16 G0 (in), 17 OSC1, 18 OSC2, 19 NC, 20 NEG (out), 21 DGND (power), 22 HFOUT (out), 23 FOUT1 (out), 24 FOUT0 (out)

## MCP3905L-I/SSRA1
designator U?
Energy Metering ICs with Active Real Power Pulse Output, 24-Pin SSOP 208mil, Industrial Temperature; Manufacturer: Microchip; PartNumber: MCP3905L-I/SSRA1; DatasheetVersion: revA, Sep-2006; PackageVersion: revBB, Aug-2009; PackageReference: SSOP-SS24; PackageDescription: 24-Lead Plastic Shrink Small Outline (SS) - 5.3mm Body [SSOP]; Mounting Technology: Surface Mount; Code_JEDEC: MO-150-AG; ComponentLink1Description: Manufacturer URL; ComponentLink1URL: http://www.microchip.com/; ComponentLink2Description: Datasheet; ComponentLink2URL: http://ww1.microchip.com/downloads/en/DeviceDoc/22011A.pdf; ComponentLink3Description: Package Specification; ComponentLink3URL: http://www.microchip.com/stellent/groups/techpub_sg/documents/packagingspec/en012702.pdf
footprint SSOP-SS24_N (SOP, 24-Leads, Body 8.2x5.3mm, Pitch 0.65mm, IPC Medium Density)
footprint SSOP-SS24_L (SOP, 24-Leads, Body 8.2x5.3mm, Pitch 0.65mm, IPC High Density)
footprint SSOP-SS24_M (SOP, 24-Leads, Body 8.2x5.3mm, Pitch 0.65mm, IPC Low Density)
pins: 1 DVDD (power), 2 HPF (in), 3 AVDD (power), 4 NC, 5 CH0+ (in), 6 CH0- (in), 7 CH1- (in), 8 CH1+ (in), 9 ~{MCLR} (in), 10 REFIN/OUT (io), 11 AGND (power), 12 F2 (in), 13 F1 (in), 14 F0 (in), 15 G1 (in), 16 G0 (in), 17 OSC1, 18 OSC2, 19 NC, 20 NEG (out), 21 DGND (power), 22 HFOUT (out), 23 FOUT1 (out), 24 FOUT0 (out)

## MCP3905LT-E/SS
designator U?
Energy Metering ICs with Active Real Power Pulse Output, 24-Pin SSOP 208mil, Extended Temperature, Tape and Reel; Manufacturer: Microchip; PartNumber: MCP3905LT-E/SS; DatasheetVersion: revB, Jul-2011; PackageVersion: revBB, Aug-2009; PackageReference: SSOP-SS24; PackageDescription: 24-Lead Plastic Shrink Small Outline (SS) - 5.3mm Body [SSOP]; Supplier 1: Digi-Key; Supplier Part Number 1: MCP3905LT-E/SS-ND; Supplier 2: Mouser; Supplier Part Number 2: 579-MCP3905LT-E/SS; Mounting Technology: Surface Mount; Code_JEDEC: MO-150-AG; ComponentLink1Description: Manufacturer URL; ComponentLink1URL: http://www.microchip.com/; ComponentLink2Description: Datasheet; ComponentLink2URL: http://ww1.microchip.com/downloads/en/DeviceDoc/22011B.pdf; ComponentLink3Description: Package Specification; ComponentLink3URL: http://www.microchip.com/stellent/groups/techpub_sg/documents/packagingspec/en012702.pdf
footprint SSOP-SS24_N (SOP, 24-Leads, Body 8.2x5.3mm, Pitch 0.65mm, IPC Medium Density)
footprint SSOP-SS24_L (SOP, 24-Leads, Body 8.2x5.3mm, Pitch 0.65mm, IPC High Density)
footprint SSOP-SS24_M (SOP, 24-Leads, Body 8.2x5.3mm, Pitch 0.65mm, IPC Low Density)
pins: 1 DVDD (power), 2 HPF (in), 3 AVDD (power), 4 NC, 5 CH0+ (in), 6 CH0- (in), 7 CH1- (in), 8 CH1+ (in), 9 ~{MCLR} (in), 10 REFIN/OUT (io), 11 AGND (power), 12 F2 (in), 13 F1 (in), 14 F0 (in), 15 G1 (in), 16 G0 (in), 17 OSC1, 18 OSC2, 19 NC, 20 NEG (out), 21 DGND (power), 22 HFOUT (out), 23 FOUT1 (out), 24 FOUT0 (out)

## MCP3905LT-I/SS
designator U?
Energy-Metering ICs with Active (Real) Power Pulse Output, 24-Pin SSOP 208mil, Industrial Temperature, Tape and Reel; Manufacturer: Microchip; PartNumber: MCP3905LT-I/SS; DatasheetVersion: revA, Sep-2006; PackageVersion: revBB, Aug-2009; PackageReference: SSOP-SS24; PackageDescription: 24-Lead Plastic Shrink Small Outline (SS) - 5.3mm Body [SSOP]; Supplier 1: Digi-Key; Supplier Part Number 1: MCP3905LT-I/SSTR-ND; Supplier 2: Mouser; Supplier Part Number 2: 579-MCP3905LT-I/SS; Mounting Technology: Surface Mount; Code_JEDEC: MO-150-AG; ComponentLink1Description: Manufacturer URL; ComponentLink1URL: http://www.microchip.com/; ComponentLink2Description: Datasheet; ComponentLink2URL: http://ww1.microchip.com/downloads/en/DeviceDoc/22011A.pdf; ComponentLink3Description: Package Specification; ComponentLink3URL: http://www.microchip.com/stellent/groups/techpub_sg/documents/packagingspec/en012702.pdf
footprint SSOP-SS24_N (SOP, 24-Leads, Body 8.2x5.3mm, Pitch 0.65mm, IPC Medium Density)
footprint SSOP-SS24_L (SOP, 24-Leads, Body 8.2x5.3mm, Pitch 0.65mm, IPC High Density)
footprint SSOP-SS24_M (SOP, 24-Leads, Body 8.2x5.3mm, Pitch 0.65mm, IPC Low Density)
pins: 1 DVDD (power), 2 HPF (in), 3 AVDD (power), 4 NC, 5 CH0+ (in), 6 CH0- (in), 7 CH1- (in), 8 CH1+ (in), 9 ~{MCLR} (in), 10 REFIN/OUT (io), 11 AGND (power), 12 F2 (in), 13 F1 (in), 14 F0 (in), 15 G1 (in), 16 G0 (in), 17 OSC1, 18 OSC2, 19 NC, 20 NEG (out), 21 DGND (power), 22 HFOUT (out), 23 FOUT1 (out), 24 FOUT0 (out)

## MCP3905LT-I/SSRA1
designator U?
Energy Metering ICs with Active Real Power Pulse Output, 24-Pin SSOP 208mil, Industrial Temperature, Tape and Reel; Manufacturer: Microchip; PartNumber: MCP3905LT-I/SSRA1; DatasheetVersion: revA, Sep-2006; PackageVersion: revBB, Aug-2009; PackageReference: SSOP-SS24; PackageDescription: 24-Lead Plastic Shrink Small Outline (SS) - 5.3mm Body [SSOP]; Mounting Technology: Surface Mount; Code_JEDEC: MO-150-AG; ComponentLink1Description: Manufacturer URL; ComponentLink1URL: http://www.microchip.com/; ComponentLink2Description: Datasheet; ComponentLink2URL: http://ww1.microchip.com/downloads/en/DeviceDoc/22011A.pdf; ComponentLink3Description: Package Specification; ComponentLink3URL: http://www.microchip.com/stellent/groups/techpub_sg/documents/packagingspec/en012702.pdf
footprint SSOP-SS24_N (SOP, 24-Leads, Body 8.2x5.3mm, Pitch 0.65mm, IPC Medium Density)
footprint SSOP-SS24_L (SOP, 24-Leads, Body 8.2x5.3mm, Pitch 0.65mm, IPC High Density)
footprint SSOP-SS24_M (SOP, 24-Leads, Body 8.2x5.3mm, Pitch 0.65mm, IPC Low Density)
pins: 1 DVDD (power), 2 HPF (in), 3 AVDD (power), 4 NC, 5 CH0+ (in), 6 CH0- (in), 7 CH1- (in), 8 CH1+ (in), 9 ~{MCLR} (in), 10 REFIN/OUT (io), 11 AGND (power), 12 F2 (in), 13 F1 (in), 14 F0 (in), 15 G1 (in), 16 G0 (in), 17 OSC1, 18 OSC2, 19 NC, 20 NEG (out), 21 DGND (power), 22 HFOUT (out), 23 FOUT1 (out), 24 FOUT0 (out)

## MCP3905T-I/SS
designator U?
Energy-Metering ICs with Active (Real) Power Pulse Output, 24-Pin SSOP 208mil, Industrial Temperature, Tape and Reel; Manufacturer: Microchip; PartNumber: MCP3905T-I/SS; DatasheetVersion: revA, Sep-2006; PackageVersion: revBB, Aug-2009; PackageReference: SSOP-SS24; PackageDescription: 24-Lead Plastic Shrink Small Outline (SS) - 5.3mm Body [SSOP]; Supplier 1: Digi-Key; Supplier Part Number 1: MCP3905T-I/SS-ND; Supplier 2: Mouser; Supplier Part Number 2: N/A; Mounting Technology: Surface Mount; Code_JEDEC: MO-150-AG; ComponentLink1Description: Manufacturer URL; ComponentLink1URL: http://www.microchip.com/; ComponentLink2Description: Datasheet; ComponentLink2URL: http://ww1.microchip.com/downloads/en/DeviceDoc/22011A.pdf; ComponentLink3Description: Package Specification; ComponentLink3URL: http://www.microchip.com/stellent/groups/techpub_sg/documents/packagingspec/en012702.pdf
footprint SSOP-SS24_N (SOP, 24-Leads, Body 8.2x5.3mm, Pitch 0.65mm, IPC Medium Density)
footprint SSOP-SS24_L (SOP, 24-Leads, Body 8.2x5.3mm, Pitch 0.65mm, IPC High Density)
footprint SSOP-SS24_M (SOP, 24-Leads, Body 8.2x5.3mm, Pitch 0.65mm, IPC Low Density)
pins: 1 DVDD (power), 2 HPF (in), 3 AVDD (power), 4 NC, 5 CH0+ (in), 6 CH0- (in), 7 CH1- (in), 8 CH1+ (in), 9 ~{MCLR} (in), 10 REFIN/OUT (io), 11 AGND (power), 12 F2 (in), 13 F1 (in), 14 F0 (in), 15 G1 (in), 16 G0 (in), 17 OSC1, 18 OSC2, 19 NC, 20 NEG (out), 21 DGND (power), 22 HFOUT (out), 23 FOUT1 (out), 24 FOUT0 (out)

## MCP3906A-E/SS
designator U?
Energy Metering ICs with Active Real Power Pulse Output, 24-Pin SSOP 208mil, Extended Temperature; Manufacturer: Microchip; PartNumber: MCP3906A-E/SS; DatasheetVersion: revB, Jul-2011; PackageVersion: revBB, Aug-2009; PackageReference: SSOP-SS24; PackageDescription: 24-Lead Plastic Shrink Small Outline (SS) - 5.3mm Body [SSOP]; Supplier 1: Digi-Key; Supplier Part Number 1: MCP3906A-E/SS-ND; Supplier 2: Newark; Supplier Part Number 2: 51T0380; Supplier 3: Mouser; Supplier Part Number 3: 579-MCP3906A-E/SS; Mounting Technology: Surface Mount; Code_JEDEC: MO-150-AG; ComponentLink1Description: Manufacturer URL; ComponentLink1URL: http://www.microchip.com/; ComponentLink2Description: Datasheet; ComponentLink2URL: http://ww1.microchip.com/downloads/en/DeviceDoc/22011B.pdf; ComponentLink3Description: Package Specification; ComponentLink3URL: http://www.microchip.com/stellent/groups/techpub_sg/documents/packagingspec/en012702.pdf
footprint SSOP-SS24_N (SOP, 24-Leads, Body 8.2x5.3mm, Pitch 0.65mm, IPC Medium Density)
footprint SSOP-SS24_L (SOP, 24-Leads, Body 8.2x5.3mm, Pitch 0.65mm, IPC High Density)
footprint SSOP-SS24_M (SOP, 24-Leads, Body 8.2x5.3mm, Pitch 0.65mm, IPC Low Density)
pins: 1 DVDD (power), 2 HPF (in), 3 AVDD (power), 4 NC, 5 CH0+ (in), 6 CH0- (in), 7 CH1- (in), 8 CH1+ (in), 9 ~{MCLR} (in), 10 REFIN/OUT (io), 11 AGND (power), 12 F2 (in), 13 F1 (in), 14 F0 (in), 15 G1 (in), 16 G0 (in), 17 OSC1, 18 OSC2, 19 NC, 20 NEG (out), 21 DGND (power), 22 HFOUT (out), 23 FOUT1 (out), 24 FOUT0 (out)

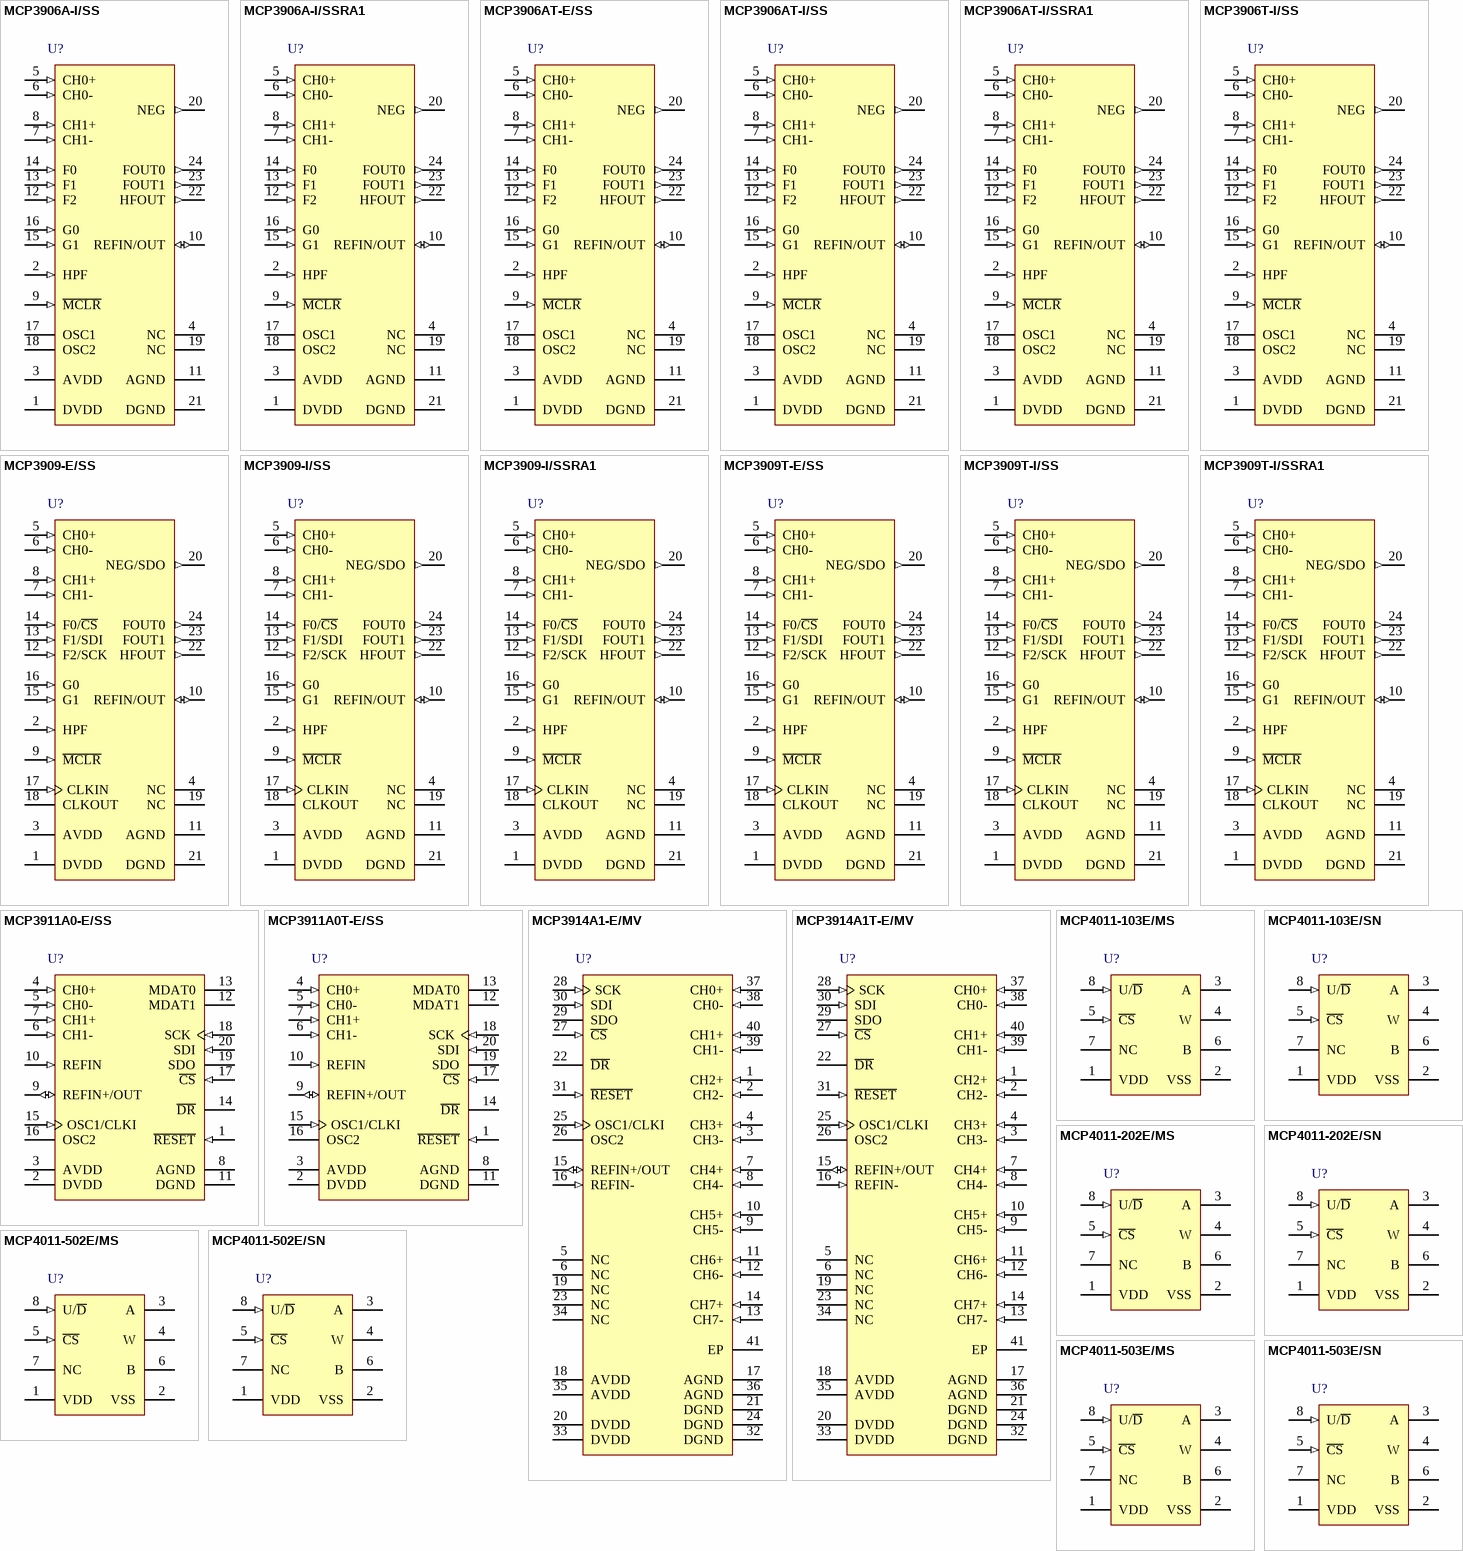
[diagram p7: symbols MCP3906A-I/SS to MCP4011-503E/SN]

## MCP3906A-I/SS
designator U?
Energy Metering ICs with Active Real Power Pulse Output, 24-Pin SSOP 208mil, Industrial Temperature; Manufacturer: Microchip; PartNumber: MCP3906A-I/SS; DatasheetVersion: revB, Jul-2011; PackageVersion: revBB, Aug-2009; PackageReference: SSOP-SS24; PackageDescription: 24-Lead Plastic Shrink Small Outline (SS) - 5.3mm Body [SSOP]; Supplier 1: Digi-Key; Supplier Part Number 1: MCP3906A-I/SS-ND; Supplier 2: Farnell; Supplier Part Number 2: 1439399; Supplier 3: Newark; Supplier Part Number 3: 58M8907; Supplier 4: Mouser; Supplier Part Number 4: 579-MCP3906A-I/SS; Mounting Technology: Surface Mount; Code_JEDEC: MO-150-AG; ComponentLink1Description: Manufacturer URL; ComponentLink1URL: http://www.microchip.com/; ComponentLink2Description: Datasheet; ComponentLink2URL: http://ww1.microchip.com/downloads/en/DeviceDoc/22011B.pdf; ComponentLink3Description: Package Specification; ComponentLink3URL: http://www.microchip.com/stellent/groups/techpub_sg/documents/packagingspec/en012702.pdf
footprint SSOP-SS24_N (SOP, 24-Leads, Body 8.2x5.3mm, Pitch 0.65mm, IPC Medium Density)
footprint SSOP-SS24_L (SOP, 24-Leads, Body 8.2x5.3mm, Pitch 0.65mm, IPC High Density)
footprint SSOP-SS24_M (SOP, 24-Leads, Body 8.2x5.3mm, Pitch 0.65mm, IPC Low Density)
pins: 1 DVDD (power), 2 HPF (in), 3 AVDD (power), 4 NC, 5 CH0+ (in), 6 CH0- (in), 7 CH1- (in), 8 CH1+ (in), 9 ~{MCLR} (in), 10 REFIN/OUT (io), 11 AGND (power), 12 F2 (in), 13 F1 (in), 14 F0 (in), 15 G1 (in), 16 G0 (in), 17 OSC1, 18 OSC2, 19 NC, 20 NEG (out), 21 DGND (power), 22 HFOUT (out), 23 FOUT1 (out), 24 FOUT0 (out)

## MCP3906A-I/SSRA1
designator U?
Energy Metering ICs with Active Real Power Pulse Output, 24-Pin SSOP 208mil, Industrial Temperature; Manufacturer: Microchip; PartNumber: MCP3906A-I/SSRA1; DatasheetVersion: revA, Sep-2006; PackageVersion: revBB, Aug-2009; PackageReference: SSOP-SS24; PackageDescription: 24-Lead Plastic Shrink Small Outline (SS) - 5.3mm Body [SSOP]; Mounting Technology: Surface Mount; Code_JEDEC: MO-150-AG; ComponentLink1Description: Manufacturer URL; ComponentLink1URL: http://www.microchip.com/; ComponentLink2Description: Datasheet; ComponentLink2URL: http://ww1.microchip.com/downloads/en/DeviceDoc/22011A.pdf; ComponentLink3Description: Package Specification; ComponentLink3URL: http://www.microchip.com/stellent/groups/techpub_sg/documents/packagingspec/en012702.pdf
footprint SSOP-SS24_N (SOP, 24-Leads, Body 8.2x5.3mm, Pitch 0.65mm, IPC Medium Density)
footprint SSOP-SS24_L (SOP, 24-Leads, Body 8.2x5.3mm, Pitch 0.65mm, IPC High Density)
footprint SSOP-SS24_M (SOP, 24-Leads, Body 8.2x5.3mm, Pitch 0.65mm, IPC Low Density)
pins: 1 DVDD (power), 2 HPF (in), 3 AVDD (power), 4 NC, 5 CH0+ (in), 6 CH0- (in), 7 CH1- (in), 8 CH1+ (in), 9 ~{MCLR} (in), 10 REFIN/OUT (io), 11 AGND (power), 12 F2 (in), 13 F1 (in), 14 F0 (in), 15 G1 (in), 16 G0 (in), 17 OSC1, 18 OSC2, 19 NC, 20 NEG (out), 21 DGND (power), 22 HFOUT (out), 23 FOUT1 (out), 24 FOUT0 (out)

## MCP3906AT-E/SS
designator U?
Energy Metering ICs with Active Real Power Pulse Output, 24-Pin SSOP 208mil, Extended Temperature, Tape and Reel; Manufacturer: Microchip; PartNumber: MCP3906AT-E/SS; DatasheetVersion: revB, Jul-2011; PackageVersion: revBB, Aug-2009; PackageReference: SSOP-SS24; PackageDescription: 24-Lead Plastic Shrink Small Outline (SS) - 5.3mm Body [SSOP]; Supplier 1: Digi-Key; Supplier Part Number 1: MCP3906AT-E/SS-ND; Supplier 2: Mouser; Supplier Part Number 2: 579-MCP3906AT-E/SS; Mounting Technology: Surface Mount; Code_JEDEC: MO-150-AG; ComponentLink1Description: Manufacturer URL; ComponentLink1URL: http://www.microchip.com/; ComponentLink2Description: Datasheet; ComponentLink2URL: http://ww1.microchip.com/downloads/en/DeviceDoc/22011B.pdf; ComponentLink3Description: Package Specification; ComponentLink3URL: http://www.microchip.com/stellent/groups/techpub_sg/documents/packagingspec/en012702.pdf
footprint SSOP-SS24_N (SOP, 24-Leads, Body 8.2x5.3mm, Pitch 0.65mm, IPC Medium Density)
footprint SSOP-SS24_L (SOP, 24-Leads, Body 8.2x5.3mm, Pitch 0.65mm, IPC High Density)
footprint SSOP-SS24_M (SOP, 24-Leads, Body 8.2x5.3mm, Pitch 0.65mm, IPC Low Density)
pins: 1 DVDD (power), 2 HPF (in), 3 AVDD (power), 4 NC, 5 CH0+ (in), 6 CH0- (in), 7 CH1- (in), 8 CH1+ (in), 9 ~{MCLR} (in), 10 REFIN/OUT (io), 11 AGND (power), 12 F2 (in), 13 F1 (in), 14 F0 (in), 15 G1 (in), 16 G0 (in), 17 OSC1, 18 OSC2, 19 NC, 20 NEG (out), 21 DGND (power), 22 HFOUT (out), 23 FOUT1 (out), 24 FOUT0 (out)

## MCP3906AT-I/SS
designator U?
Energy Metering ICs with Active Real Power Pulse Output, 24-Pin SSOP 208mil, Industrial Temperature, Tape and Reel; Manufacturer: Microchip; PartNumber: MCP3906AT-I/SS; DatasheetVersion: revB, Jul-2011; PackageVersion: revBB, Aug-2009; PackageReference: SSOP-SS24; PackageDescription: 24-Lead Plastic Shrink Small Outline (SS) - 5.3mm Body [SSOP]; Supplier 1: Digi-Key; Supplier Part Number 1: MCP3906AT-I/SS-ND; Supplier 2: Mouser; Supplier Part Number 2: 579-MCP3906AT-I/SS; Mounting Technology: Surface Mount; Code_JEDEC: MO-150-AG; ComponentLink1Description: Manufacturer URL; ComponentLink1URL: http://www.microchip.com/; ComponentLink2Description: Datasheet; ComponentLink2URL: http://ww1.microchip.com/downloads/en/DeviceDoc/22011B.pdf; ComponentLink3Description: Package Specification; ComponentLink3URL: http://www.microchip.com/stellent/groups/techpub_sg/documents/packagingspec/en012702.pdf
footprint SSOP-SS24_N (SOP, 24-Leads, Body 8.2x5.3mm, Pitch 0.65mm, IPC Medium Density)
footprint SSOP-SS24_L (SOP, 24-Leads, Body 8.2x5.3mm, Pitch 0.65mm, IPC High Density)
footprint SSOP-SS24_M (SOP, 24-Leads, Body 8.2x5.3mm, Pitch 0.65mm, IPC Low Density)
pins: 1 DVDD (power), 2 HPF (in), 3 AVDD (power), 4 NC, 5 CH0+ (in), 6 CH0- (in), 7 CH1- (in), 8 CH1+ (in), 9 ~{MCLR} (in), 10 REFIN/OUT (io), 11 AGND (power), 12 F2 (in), 13 F1 (in), 14 F0 (in), 15 G1 (in), 16 G0 (in), 17 OSC1, 18 OSC2, 19 NC, 20 NEG (out), 21 DGND (power), 22 HFOUT (out), 23 FOUT1 (out), 24 FOUT0 (out)

## MCP3906AT-I/SSRA1
designator U?
Energy Metering ICs with Active Real Power Pulse Output, 24-Pin SSOP 208mil, Industrial Temperature, Tape and Reel; Manufacturer: Microchip; PartNumber: MCP3906AT-I/SSRA1; DatasheetVersion: revA, Sep-2006; PackageVersion: revBB, Aug-2009; PackageReference: SSOP-SS24; PackageDescription: 24-Lead Plastic Shrink Small Outline (SS) - 5.3mm Body [SSOP]; Mounting Technology: Surface Mount; Code_JEDEC: MO-150-AG; ComponentLink1Description: Manufacturer URL; ComponentLink1URL: http://www.microchip.com/; ComponentLink2Description: Datasheet; ComponentLink2URL: http://ww1.microchip.com/downloads/en/DeviceDoc/22011A.pdf; ComponentLink3Description: Package Specification; ComponentLink3URL: http://www.microchip.com/stellent/groups/techpub_sg/documents/packagingspec/en012702.pdf
footprint SSOP-SS24_N (SOP, 24-Leads, Body 8.2x5.3mm, Pitch 0.65mm, IPC Medium Density)
footprint SSOP-SS24_L (SOP, 24-Leads, Body 8.2x5.3mm, Pitch 0.65mm, IPC High Density)
footprint SSOP-SS24_M (SOP, 24-Leads, Body 8.2x5.3mm, Pitch 0.65mm, IPC Low Density)
pins: 1 DVDD (power), 2 HPF (in), 3 AVDD (power), 4 NC, 5 CH0+ (in), 6 CH0- (in), 7 CH1- (in), 8 CH1+ (in), 9 ~{MCLR} (in), 10 REFIN/OUT (io), 11 AGND (power), 12 F2 (in), 13 F1 (in), 14 F0 (in), 15 G1 (in), 16 G0 (in), 17 OSC1, 18 OSC2, 19 NC, 20 NEG (out), 21 DGND (power), 22 HFOUT (out), 23 FOUT1 (out), 24 FOUT0 (out)

## MCP3906T-I/SS
designator U?
Energy-Metering ICs with Active (Real) Power Pulse Output, 24-Pin SSOP 208mil, Industrial Temperature, Tape and Reel; Manufacturer: Microchip; PartNumber: MCP3906T-I/SS; DatasheetVersion: revA, Sep-2006; PackageVersion: revBB, Aug-2009; PackageReference: SSOP-SS24; PackageDescription: 24-Lead Plastic Shrink Small Outline (SS) - 5.3mm Body [SSOP]; Supplier 1: Digi-Key; Supplier Part Number 1: MCP3906T-I/SS-ND; Supplier 2: Mouser; Supplier Part Number 2: N/A; Mounting Technology: Surface Mount; Code_JEDEC: MO-150-AG; ComponentLink1Description: Manufacturer URL; ComponentLink1URL: http://www.microchip.com/; ComponentLink2Description: Datasheet; ComponentLink2URL: http://ww1.microchip.com/downloads/en/DeviceDoc/22011A.pdf; ComponentLink3Description: Package Specification; ComponentLink3URL: http://www.microchip.com/stellent/groups/techpub_sg/documents/packagingspec/en012702.pdf
footprint SSOP-SS24_N (SOP, 24-Leads, Body 8.2x5.3mm, Pitch 0.65mm, IPC Medium Density)
footprint SSOP-SS24_L (SOP, 24-Leads, Body 8.2x5.3mm, Pitch 0.65mm, IPC High Density)
footprint SSOP-SS24_M (SOP, 24-Leads, Body 8.2x5.3mm, Pitch 0.65mm, IPC Low Density)
pins: 1 DVDD (power), 2 HPF (in), 3 AVDD (power), 4 NC, 5 CH0+ (in), 6 CH0- (in), 7 CH1- (in), 8 CH1+ (in), 9 ~{MCLR} (in), 10 REFIN/OUT (io), 11 AGND (power), 12 F2 (in), 13 F1 (in), 14 F0 (in), 15 G1 (in), 16 G0 (in), 17 OSC1, 18 OSC2, 19 NC, 20 NEG (out), 21 DGND (power), 22 HFOUT (out), 23 FOUT1 (out), 24 FOUT0 (out)

## MCP3909-E/SS
designator U?
Energy Metering IC with SPI Interface and Active Power Pulse Output, 24-Pin SSOP 208mil, Extended Temperature; Manufacturer: Microchip; PartNumber: MCP3909-E/SS; DatasheetVersion: revB, Apr-2009; PackageVersion: revBB, Aug-2009; PackageReference: SSOP-SS24; PackageDescription: 24-Lead Plastic Shrink Small Outline (SS) - 5.3mm Body [SSOP]; Supplier 1: Digi-Key; Supplier Part Number 1: MCP3909-E/SS-ND; Supplier 2: Mouser; Supplier Part Number 2: 579-MCP3909-E/SS; Mounting Technology: Surface Mount; Code_JEDEC: MO-150-AG; ComponentLink1Description: Manufacturer URL; ComponentLink1URL: http://www.microchip.com/; ComponentLink2Description: Datasheet; ComponentLink2URL: http://ww1.microchip.com/downloads/en/DeviceDoc/22025b.pdf; ComponentLink3Description: Package Specification; ComponentLink3URL: http://www.microchip.com/stellent/groups/techpub_sg/documents/packagingspec/en012702.pdf
footprint SSOP-SS24_N (SOP, 24-Leads, Body 8.2x5.3mm, Pitch 0.65mm, IPC Medium Density)
footprint SSOP-SS24_L (SOP, 24-Leads, Body 8.2x5.3mm, Pitch 0.65mm, IPC High Density)
footprint SSOP-SS24_M (SOP, 24-Leads, Body 8.2x5.3mm, Pitch 0.65mm, IPC Low Density)
pins: 1 DVDD (power), 2 HPF (in), 3 AVDD (power), 4 NC, 5 CH0+ (in), 6 CH0- (in), 7 CH1- (in), 8 CH1+ (in), 9 ~{MCLR} (in), 10 REFIN/OUT (io), 11 AGND (power), 12 F2/SCK (in), 13 F1/SDI (in), 14 F0/~{CS} (in), 15 G1 (in), 16 G0 (in), 17 CLKIN (in), 18 CLKOUT, 19 NC, 20 NEG/SDO (out), 21 DGND (power), 22 HFOUT (out), 23 FOUT1 (out), 24 FOUT0 (out)

## MCP3909-I/SS
designator U?
Energy Metering IC with SPI Interface and Active Power Pulse Output, 24-Pin SSOP 208mil, Industrial Temperature; Manufacturer: Microchip; PartNumber: MCP3909-I/SS; DatasheetVersion: revB, Apr-2009; PackageVersion: revBB, Aug-2009; PackageReference: SSOP-SS24; PackageDescription: 24-Lead Plastic Shrink Small Outline (SS) - 5.3mm Body [SSOP]; Supplier 1: Digi-Key; Supplier Part Number 1: MCP3909-I/SS-ND; Supplier 2: Farnell; Supplier Part Number 2: 1439402; Supplier 3: Newark; Supplier Part Number 3: 17M0645; Supplier 4: Mouser; Supplier Part Number 4: 579-MCP3909-I/SS; Mounting Technology: Surface Mount; Code_JEDEC: MO-150-AG; ComponentLink1Description: Manufacturer URL; ComponentLink1URL: http://www.microchip.com/; ComponentLink2Description: Datasheet; ComponentLink2URL: http://ww1.microchip.com/downloads/en/DeviceDoc/22025b.pdf; ComponentLink3Description: Package Specification; ComponentLink3URL: http://www.microchip.com/stellent/groups/techpub_sg/documents/packagingspec/en012702.pdf
footprint SSOP-SS24_N (SOP, 24-Leads, Body 8.2x5.3mm, Pitch 0.65mm, IPC Medium Density)
footprint SSOP-SS24_L (SOP, 24-Leads, Body 8.2x5.3mm, Pitch 0.65mm, IPC High Density)
footprint SSOP-SS24_M (SOP, 24-Leads, Body 8.2x5.3mm, Pitch 0.65mm, IPC Low Density)
pins: 1 DVDD (power), 2 HPF (in), 3 AVDD (power), 4 NC, 5 CH0+ (in), 6 CH0- (in), 7 CH1- (in), 8 CH1+ (in), 9 ~{MCLR} (in), 10 REFIN/OUT (io), 11 AGND (power), 12 F2/SCK (in), 13 F1/SDI (in), 14 F0/~{CS} (in), 15 G1 (in), 16 G0 (in), 17 CLKIN (in), 18 CLKOUT, 19 NC, 20 NEG/SDO (out), 21 DGND (power), 22 HFOUT (out), 23 FOUT1 (out), 24 FOUT0 (out)